# Altium schematic symbol library LT1990ACS8.SchLib: 1 symbol
Pins are listed as number, name and electrical type; pins without a type are passive.

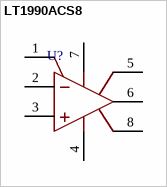
[diagram p0: symbol LT1990ACS8]

## LT1990ACS8
designator U?
Single Channel, Integrated Resistors, Micropower, Difference Amplifier, 0.1 MHz Typical GBW, 0.55 V/us Typical SR, 2.4 to 36 V, 8-Pin SOIC (S8-8), Commercial; Linear Technology Part Number: LT1990; Manufacturer: Linear Technology; PartNumber: LT1990ACS8; Channels (#): 1; GBW (MHz) Typical: 0.1; Is (mA) Typical: 0.14; SR (V/us) Typical: 0.55; Vos (mV) Guaranteed: 5.2; Vos (mV) Typical: 0.9; Vs Max (V): 36; Vs Min (V): 2.4; DatasheetVersion: Rev. B; PackageVersion: Rev G; PackageReference: LT-S8-8; PackageDescription: 8-Pin Plastic Small Outline, Body 4.9 x 3.9 mm, Pitch 1.27 mm; Supplier 1: Digi-Key; Supplier Part Number 1: LT1990ACS8-ND; Type: SGA; Mounting Technology: Surface Mount; ComponentLink1Description: Manufacturer URL; ComponentLink1URL: http://www.linear.com/; ComponentLink2Description: Datasheet; ComponentLink2URL: http://cds.linear.com/docs/en/datasheet/1990fb.pdf; ComponentLink3Description: Package Specification; ComponentLink3URL: http://cds.linear.com/docs/en/packaging/05081610_G_SO8.pdf
footprint LT-S8-8_L (SOIC, 8-Leads, Body 4.9x3.9mm, Pitch 1.27mm, IPC High Density)
footprint LT-S8-8_N (SOIC, 8-Leads, Body 4.9x3.9mm, Pitch 1.27mm, IPC Medium Density)
footprint LT-S8-8_M (SOIC, 8-Leads, Body 4.9x3.9mm, Pitch 1.27mm, IPC Low Density)
pins: 1 REF (power) "Reference Input. Sets the output level when the difference between the inputs is zero.", 2 -IN (power) "Inverting Input. Connects a 1Mohm resistor to the op amp’s inverting input. Designed to permit high voltage operation.", 3 +IN (power) "Noninverting Input. Connects a 1Mohm resistor to the op amp’s noninverting input. Designed to permit high voltage operation.", 4 V- (power) "Negative Power Supply. Can be either ground (in single supply applications) or a negative voltage (in split supply applications).", 5 GAIN2 (power) "Gain = 10 Select Input. Configures the amplifier for a gain of 10 when connected to the GAIN1 pin and the REF pin. The gain is equal to one when both GAIN2 and GAIN1 are open. See Applications section for additional (See Datasheet)", 6 OUT (power) "Output. VOUT = G • (V+IN - V-IN) + VREF, in the basic configuration.", 7 V+ (power) "Positive Power Supply. Can range from 2.7V to 36V above the V- voltage.", 8 GAIN1 (power) "Gain = 10 Select Input. Configures the amplifier for a gain of 10 when connected to the GAIN2 pin and the REF pin. The gain is equal to one when both GAIN1 and GAIN2 are open. See Applications section for additional (See Datasheet)"